# EAGLE library part ECOG_DUAL (library eCogs)
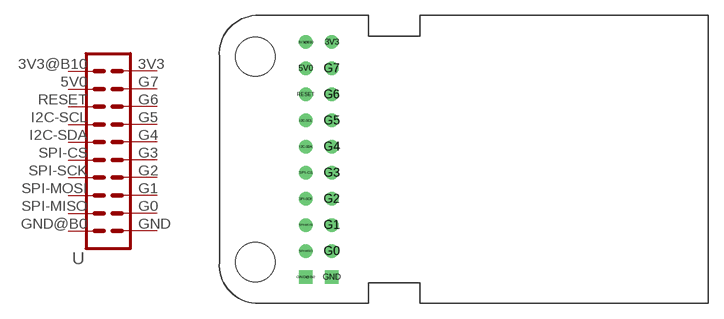
[diagram p3: symbol with the pads of ECOG_DUAL_TH; footprint ECOG_DUAL_TH]

Designator prefix -

## ECOG_DUALTHROUGHHOLE  [ECOG_DUAL_TH]
3V3  3V3  pas
3V3@B10  3V3  pas
5V0  5V  pas
G0  G0  pas
G1  G1  pas
G2  G2  pas
G3  G3  pas
G4  G4  pas
G5  G5  pas
G6  G6  pas
G7  G7  pas
GND  GND  pas
GND@B0  GND  pas
I2C-SCL  I2C-SCL  pas
I2C-SDA  I2C-SDA  pas
RESET  RESET  pas
SPI-CS  SPI-CS  pas
SPI-MISO  SPI-MISO  pas
SPI-MOSI  SPI-MOSI  pas
SPI-SCK  SPI-SCK  pas

## Footprint ECOG_DUAL_TH (pad centres in mm)
drill 0.8: 3V3 11.43,25.4; 3V3@B10 8.89,25.4; 5V0 8.89,22.86; G0 11.43,5.08; G1 11.43,7.62; G2 11.43,10.16; G3 11.43,12.7; G4 11.43,15.24; G5 11.43,17.78; G6 11.43,20.32; G7 11.43,22.86; I2C-SCL 8.89,17.78; I2C-SDA 8.89,15.24; RESET 8.89,20.32; SPI-CS 8.89,12.7; SPI-MISO 8.89,5.08; SPI-MOSI 8.89,7.62; SPI-SCK 8.89,10.16
drill 0.8 square: GND 11.43,2.54; GND@B0 8.89,2.54
hole 3.8 at 4,24
hole 3.8 at 4,4